# Altium footprint library 高压连接器.PcbLib: 1 footprints
Each footprint in its own frame and in the unit in brackets; x right, y up, seen from the top. Pads: shape width x height; smd on the part's side, far side on the other; paste and mask are expansions set on the pad; w line width, h text height; cw(c..) or ccw(c..) is an arc to the next point about the centre after c.
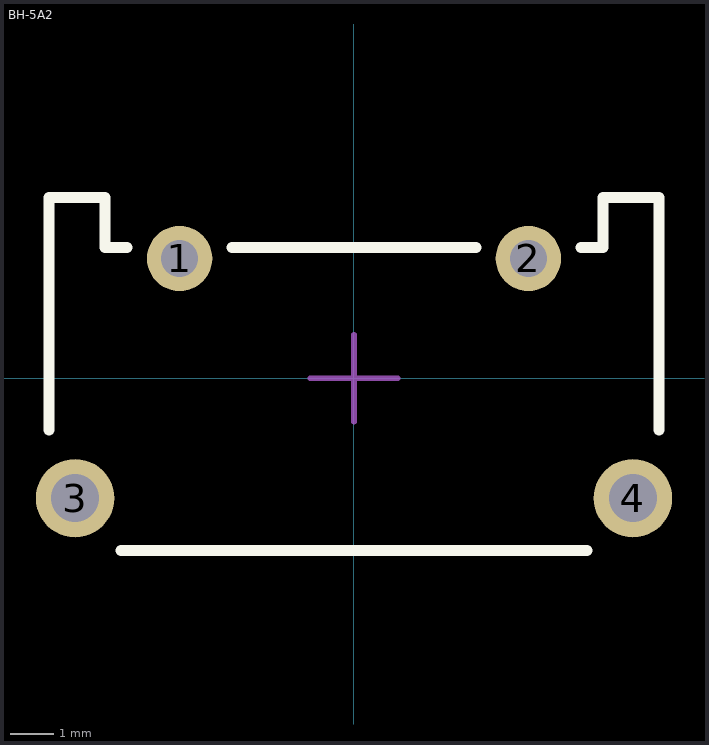
[diagram p0: the footprint, top view; thin cyan lines are the x and y axes]

## BH-5A2 [mm] "BH高压座"
height 2.2
pads (4):
  round 1.5 hole 0.85: 1(-4,2.75) 2(4,2.75)
  round 1.8 hole 1.1: 3(-6.4,-2.75) 4(6.4,-2.75)
Top Overlay:
  lines w0.254: -7,-1.187 -7,4.15 -5.715,4.15 -5.715,3.004 -5.207,3.004 ; -5.349,-3.95 5.349,-3.95 ; -2.794,3.004 2.794,3.004 ; 5.207,3.004 5.715,3.004 5.715,4.15 7,4.15 7,-1.187
Mechanical 15:
  lines w0.127: -1,0 0,0 ; 0,-1 0,0 ; 0,1 0,0 ; 1,0 0,0